# EAGLE library part 52610-2471 (library Molex_By_element14_Batch_1)
SOCKET FFC/FPC
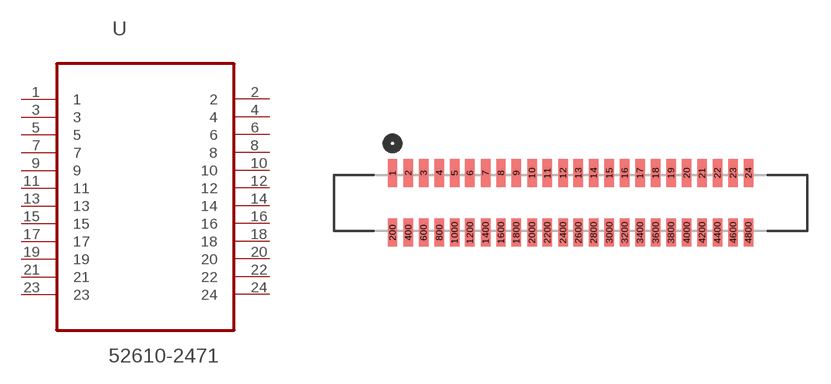
[diagram p22: symbol with the pads of MOLEX_52610-2471; footprint MOLEX_52610-2471]

Designator prefix U

## 52610-2471 (MPN: 52610-2471; OC_FARNELL: 1079964; OC_NEWARK: 58J9786; PACKAGE: SOCKET FFC/FPC, 24 way; SUPPLIER: Molex)  [MOLEX_52610-2471]
1  1  pas
2  2  pas
3  3  pas
4  4  pas
5  5  pas
6  6  pas
7  7  pas
8  8  pas
9  9  pas
10  10  pas
11  11  pas
12  12  pas
13  13  pas
14  14  pas
15  15  pas
16  16  pas
17  17  pas
18  18  pas
19  19  pas
20  20  pas
21  21  pas
22  22  pas
23  23  pas
24  24  pas

## Footprint MOLEX_52610-2471 (pad centres in mm)
smd 0.61 x 1.803: 1 -23.012,3.861; 2 -21.996,3.861; 3 -21.006,3.861; 4 -19.99,3.861; 5 -18.999,3.861; 6 -18.009,3.861; 7 -16.993,3.861; 8 -16.002,3.861; 9 -15.011,3.861; 10 -13.995,3.861; 11 -13.005,3.861; 12 -11.989,3.861; 13 -10.998,3.861; 14 -10.008,3.861; 15 -8.992,3.861; 16 -8.001,3.861; 17 -7.01,3.861; 18 -5.994,3.861; 19 -5.004,3.861; 20 -3.988,3.861; 21 -2.997,3.861; 22 -2.007,3.861; 23 -0.991,3.861; 24 0,3.861; 200 -23.012,0; 400 -21.996,0; 600 -21.006,0; 800 -19.99,0; 1000 -18.999,0; 1200 -18.009,0; 1400 -16.993,0; 1600 -16.002,0; 1800 -15.011,0; 2000 -13.995,0; 2200 -13.005,0; 2400 -11.989,0; 2600 -10.998,0; 2800 -10.008,0; 3000 -8.992,0; 3200 -8.001,0; 3400 -7.01,0; 3600 -5.994,0; 3800 -5.004,0; 4000 -3.988,0; 4200 -2.997,0; 4400 -2.007,0; 4600 -0.991,0; 4800 0,0